# Altium schematic symbol library DSC1001AI2-032P7680.SchLib: 2 symbols
Pins are listed as number, name and electrical type; pins without a type are passive.

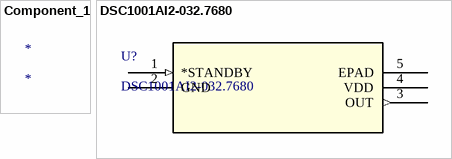
[diagram p0: symbols Component_1 to DSC1001AI2-032.7680]

## Component_1
designator *

## DSC1001AI2-032.7680
designator U?
No Description Available; Mfr_Name: Microchip; Copyright: Copyright (C) 2021 Ultra Librarian. All rights reserved.; Manufacturer_Part_Number: DSC1001AI2-032.7680; Digi-Key_Part_Number_1: DSC1001AI2-032.7680-ND; RefDes: RefDes; Type: DEV
footprint DFN4_7X5_MCH
pins: 1 *STANDBY (in), 2 GND, 3 OUT (out), 4 VDD (power), 5 EPAD